# Altium footprint library Copy of LARS_409_DC-DC.PCBLIB: 17 footprints (part 1 of 2)
Each footprint in its own frame and in the unit in brackets; x right, y up, seen from the top. Pads: shape width x height; smd on the part's side, far side on the other; paste and mask are expansions set on the pad; w line width, h text height; cw(c..) or ccw(c..) is an arc to the next point about the centre after c.
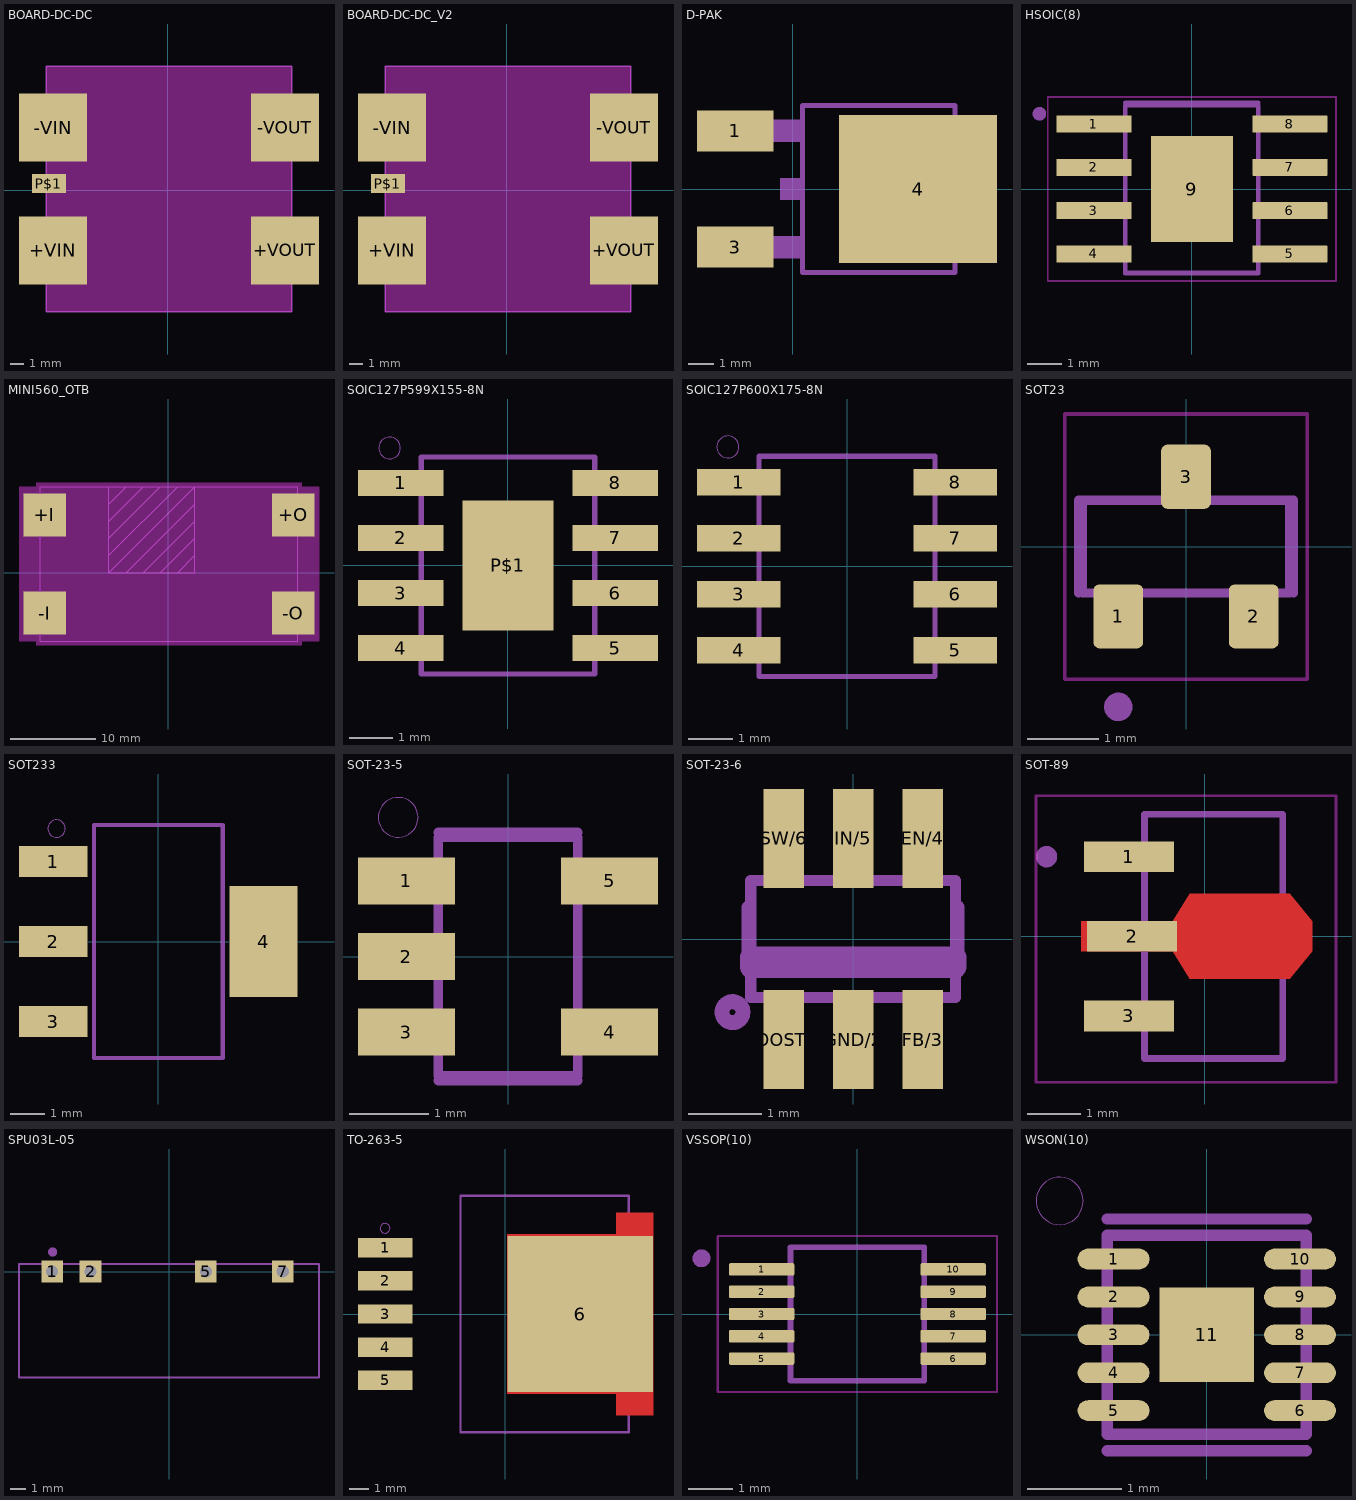
[diagram p0: the footprints below, top view; thin cyan lines are the x and y axes]

## BOARD-DC-DC [mm]
pads (5):
  rect 5x5 smd: +VIN(-8.39,-4.39) +VOUT(8.61,-4.39) -VIN(-8.39,4.61) -VOUT(8.61,4.61)
  rect 2.5x1.4 smd: P$1(-8.7,0.5)
Top keep-out:
  region: -8.89,-8.89 -8.89,9.11 9.11,9.11 9.11,-8.89
tPlace:
  lines w0.127: -8.89,-8.89 -8.89,9.11 9.11,9.11 9.11,-8.89 -8.89,-8.89

## BOARD-DC-DC_V2 [mm]
pads (5):
  rect 5x5 smd: +VIN(-8.39,-4.39) +VOUT(8.61,-4.39) -VIN(-8.39,4.61) -VOUT(8.61,4.61)
  rect 2.5x1.4 smd: P$1(-8.7,0.5)
Top keep-out:
  region: -8.89,-8.89 -8.89,9.11 9.11,9.11 9.11,-8.89
tPlace:
  lines w0.127: -8.89,-8.89 9.11,-8.89 9.11,9.11 -8.89,9.11 -8.89,-8.89

## D-PAK [mm]
pads (3):
  rect 3x1.6 smd: 1(-2.26,2.28) 3(-2.26,-2.28)
  rect 6.2x5.8 smd: 4(4.92,0)
tDocu:
  region: -2.616,2.718 0.279,2.718 0.279,1.854 -2.616,1.854
  region: -2.616,-1.854 0.279,-1.854 0.279,-2.718 -2.616,-2.718
  region: 6.477,2.565 7.188,2.565 7.645,2.108 7.645,-2.108 7.188,-2.565 6.477,-2.565
  lines w0.203: 6.375,-3.277 6.375,3.277 ; 6.477,-2.565 7.188,-2.565 7.645,-2.108 7.645,2.108 7.188,2.565 6.477,2.565 6.477,-2.565
tPlace:
  region: -0.483,0.432 0.279,0.432 0.279,-0.432 -0.483,-0.432
  lines w0.203: 6.375,-3.277 0.381,-3.277 0.381,3.277 6.375,3.277
3D body "User Library-DPAK-1.STEP": height 2.39, standoff -0.03, extent -2.509,-3.27 7.429,3.27

## HSOIC(8) [mm]
pads (9):
  rect 2.2x0.5 smd: 1(-2.875,1.905) 2(-2.875,0.635) 3(-2.875,-0.635) 4(-2.875,-1.905)
  rrect10% 2.2x0.5 smd: 5(2.875,-1.905) 6(2.875,-0.635) 7(2.875,0.635) 8(2.875,1.905)
  rect 2.4x3.1 smd: 9(0,0)
Top keep-out:
  lines w0.05: -4.225,-2.7 -4.225,2.7 4.225,2.7 4.225,-2.7 -4.225,-2.7
tDocu:
  circle w0.2: c-4.47,2.205 r0.1
  lines w0.127: -1.95,-2.45 -1.95,2.45 1.95,2.45 1.95,-2.45 -1.95,-2.45
tPlace:
  circle w0.2: c-4.47,2.205 r0.1
  lines w0.127: -1.95,-2.475 1.95,-2.475 ; -1.95,2.525 1.95,2.525
3D body "_0BG8_ E_;;0 acs711klctr-25ab-t .STEP": height 1.88, standoff -0.01, extent -3,-2.45 3,2.45

## MINI560_OTB [mm]
pads (4):
  rect 5x5 smd: +I(-14.44,6.76) +O(14.56,6.76) -I(-14.44,-4.7) -O(14.56,-4.7)
Top keep-out:
  region: -15.44,10.53 15.56,10.53 15.56,10.03 17.56,10.03 17.56,-7.97 15.56,-7.97 15.56,-8.47 -15.44,-8.47 -15.44,-7.97 -17.44,-7.97 -17.44,10.03 -15.44,10.03
tPlace:
  lines w0.127: -6.94,0.03 -4.94,0.03 ; -6.94,0.03 -6.94,2.03 ; -6.94,0.03 3.06,10.03 ; -6.94,2.03 -6.94,4.03 ; -6.94,2.03 1.06,10.03 ; -6.94,4.03 -6.94,6.03 ; -6.94,4.03 -0.94,10.03 ; -6.94,6.03 -6.94,8.03 ; -6.94,6.03 -2.94,10.03 ; -6.94,8.03 -6.94,10.03 ; -6.94,8.03 -4.94,10.03 ; -6.94,10.03 -14.94,10.03 -14.94,-7.97 15.06,-7.97 15.06,10.03 3.06,10.03 ; -6.94,10.03 -4.94,10.03 ; -4.94,0.03 -2.94,0.03 ; -4.94,0.03 3.06,8.03 ; -4.94,10.03 -2.94,10.03 ; -2.94,0.03 -0.94,0.03 ; -2.94,0.03 3.06,6.03 ; -2.94,10.03 -0.94,10.03 ; -0.94,0.03 1.06,0.03 ; -0.94,0.03 3.06,4.03 ; -0.94,10.03 1.06,10.03 ; 1.06,0.03 3.06,0.03 3.06,2.03 ; 1.06,0.03 3.06,2.03 ; 1.06,10.03 3.06,10.03 ; 3.06,2.03 3.06,4.03 ; 3.06,4.03 3.06,6.03 ; 3.06,6.03 3.06,8.03 ; 3.06,8.03 3.06,10.03

## SOIC127P599X155-8N [mm]
pads (9):
  rect 1.972x0.602 smd: 1(-2.472,1.905) 2(-2.472,0.635) 3(-2.472,-0.635) 4(-2.472,-1.905) 5(2.472,-1.905) 6(2.472,-0.635) 7(2.472,0.635) 8(2.472,1.905)
  rect 2.1x3 smd: P$1(0,0)
tDocu:
  lines w0.12: -2,-2.5 -2,2.5 2,2.5 2,-2.5 -2,-2.5
tPlace:
  circle w0: c-2.729,2.71 r0.25
  lines w0.12: -2,-2.46 -2,-2.5 2,-2.5 2,-2.46 ; -2,2.46 -2,2.5 2,2.5 2,2.46
3D body "User Library-HSOP8-1.STEP": height 1.74, standoff -0.01, extent -3.124,-2.511 3.076,2.489

## SOIC127P600X175-8N [mm]
pads (8):
  rect 1.901x0.602 smd: 1(-2.455,1.905) 2(-2.455,0.635) 3(-2.455,-0.635) 4(-2.455,-1.905) 5(2.455,-1.905) 6(2.455,-0.635) 7(2.455,0.635) 8(2.455,1.905)
tDocu:
  lines w0.12: -2,-2.5 -2,2.5 2,2.5 2,-2.5 -2,-2.5
tPlace:
  circle w0: c-2.703,2.71 r0.25
  lines w0.12: -2,-2.46 -2,-2.5 2,-2.5 2,-2.46 ; -2,2.46 -2,2.5 2,2.5 2,2.46
3D body "User Library-SOIC8_JEDEC_MS-012AA.STEP": height 1.75, standoff -0.01, extent -3.1,-2.5 3.1,2.5

## SOT23 [mm]
pads (3):
  rrect25% 0.7x0.9 smd: 1(-0.95,-0.98) 2(0.95,-0.98) 3(0,0.98)
Top keep-out:
  lines w0.05: -1.7,-1.86 1.7,-1.86 1.7,1.86 -1.7,1.86 -1.7,-1.86
tDocu:
  circle w0.2: c-0.95,-2.25 r0.1
  lines w0.127: -1.45,-0.65 1.45,-0.65 1.45,0.65 -1.45,0.65 -1.45,-0.65
tPlace:
  circle w0.2: c-0.95,-2.25 r0.1
  lines w0.127: -1.509,-0.65 -1.509,0.65 -0.61,0.65 ; 0.61,0.65 1.509,0.65 1.509,-0.65
3D body "CircuitWorks-SOT-23.step": height 1.08, standoff -0.02, extent -1.5,-1.25 1.5,1.25

## SOT233 [mil]
pads (4):
  rect 77.37x35 smd: 1(-119,90.55) 2(-119,0) 3(-119,-90.55)
  rect 77.37x125.56 smd: 4(119,0)
tDocu:
  lines w4.72: -72.83,-131.89 72.83,-131.89 72.83,131.89 -72.83,131.89 -72.83,-131.89
tPlace:
  circle w0: c-115.26,127.9 r9.84
  lines w4.72: -72.83,-118.06 -72.83,-131.89 72.83,-131.89 72.83,-72.78 ; -72.83,118.06 -72.83,131.89 72.83,131.89 72.83,72.78
3D body "SOT223.STEP": height 62.99, standoff -3.92, extent -138.28,-130 138.28,125.91

## SOT-23-5 [mm]
pads (5):
  rect 1.217x0.589 smd: 1(-1.277,0.95) 2(-1.277,0) 3(-1.277,-0.95) 4(1.277,-0.95) 5(1.277,0.95)
tDocu:
  lines w0.12: -0.875,-1.5 -0.875,1.5 0.875,1.5 0.875,-1.5 -0.875,-1.5
tPlace:
  circle w0: c-1.38,1.749 r0.25
  lines w0.12: -0.875,-1.559 0.875,-1.559 ; -0.875,1.559 0.875,1.559
3D body "32-5.step": height 1.18, standoff 0.01, extent -1.42,-1.459 1.405,1.441

## SOT-23-6 [mm]
pads (6):
  rect 0.55x1.35 smd: BOOST/1(-0.95,-1.375) EN/4(0.95,1.375) FB/3(0.95,-1.375) GND/2(0,-1.375) IN/5(0,1.375) SW/6(-0.95,1.375)
tDocu:
  region: -0.25,0.85 -0.25,1.5 0.25,1.5 0.25,0.85
  region: -1.2,0.85 -1.2,1.5 -0.7,1.5 -0.7,0.85
  region: 0.7,0.85 0.7,1.5 1.2,1.5 1.2,0.85
  region: 0.7,-1.5 0.7,-0.85 1.2,-0.85 1.2,-1.5
  region: -0.25,-1.5 -0.25,-0.85 0.25,-0.85 0.25,-1.5
  region: -1.2,-1.5 -1.2,-0.85 -0.7,-0.85 -0.7,-1.5
  lines w0.152: -1.4,-0.8 -1.4,0.8 1.4,0.8 1.4,-0.8 -1.4,-0.8
tPlace:
  circle w0.203: c-1.65,-1 r0.144
  lines w0.203: -1.422,-0.43 -1.422,0.43 ; 1.422,-0.43 1.422,0.43
  lines w0.305: -1.397,-0.381 1.397,-0.381 1.397,-0.254 -1.397,-0.254 -1.397,-0.381
3D body "23-6.step": height 1.09, standoff 0, extent -1.385,-1.253 1.409,1.173

## SOT-89 [mm]
pads (3):
  rect 1.7x0.58 smd: 1(-1.425,1.5) 3(-1.425,-1.5)
  rect 1.7x0.58 smd mask+0: 2(-1.365,0)
Top:
  region: -2.325,0.28 -2.325,-0.28 -0.6,-0.28 -0.28,-0.8 1.605,-0.8 2.025,-0.28 2.025,0.28 1.605,0.8 -0.28,0.8 -0.6,0.28
Top keep-out:
  lines w0.05: -3.175,-2.75 2.475,-2.75 2.475,2.65 -3.175,2.65 -3.175,-2.75
Top Paste:
  region: -0.098,-0.38 -0.098,0.38 1.623,0.38 1.623,-0.38
Top Solder:
  region: -2.425,0.38 -2.425,-0.38 -0.6,-0.38 -0.28,-0.9 1.605,-0.9 2.125,-0.28 2.125,0.28 1.605,0.9 -0.28,0.9 -0.6,0.38
tDocu:
  circle w0.2: c-2.975,1.5 r0.1
  lines w0.127: -1.13,-2.3 1.47,-2.3 1.47,2.3 -1.13,2.3 -1.13,-2.3
tPlace:
  circle w0.2: c-2.975,1.5 r0.1
  lines w0.127: -1.13,-2.3 1.47,-2.3 1.47,-0.92 ; -1.13,2.3 1.47,2.3 1.47,0.92
3D body "SOT-89.step": height 1.35, standoff 0, extent -2.246,-2.3 2.004,2.3

## SPU03L-05 [mil]
pads (4):
  rect 56x56 / inner round 51.74 / far side rect 56x56 hole 31.5: 1(-303.94,0) 2(-203.94,0) 5(95.67,0) 7(295.67,0)
tDocu:
  circle w16: c-302.36,50.79 r3.94
tPlace:
  lines w6: -389.76,-275.59 -389.76,19.69 389.76,19.69 389.76,-275.59 -389.76,-275.59

## TO-263-5 [mil]
pads (6):
  rect 109.91x39.33 smd: 1(-243.5,133.86) 2(-243.5,66.93) 3(-243.5,0) 4(-243.5,-66.93) 5(-243.5,-133.86)
  rect 294.56x314.96 smd paste+0 mask+0: 6(151.18,0)
Top:
  region: 299.21,-204.72 299.21,204.72 224.41,204.72 224.41,161.42 3.94,161.42 3.94,-161.42 15.75,-161.42 224.41,-161.42 224.41,-204.72
Top Paste:
  region: 3.94,-157.48 3.94,157.48 224.41,157.48 224.41,204.72 299.21,204.72 299.21,-204.72 224.41,-204.72 224.41,-157.48
Top Solder:
  region: 3.94,-157.48 3.94,157.48 224.41,157.48 224.41,204.72 299.21,204.72 299.21,-204.72 224.41,-204.72 224.41,-157.48 212.6,-157.48
tDocu:
  lines w4.72: -90.94,-239.37 -90.94,239.37 249.21,239.37 249.21,-239.37 -90.94,-239.37
tPlace:
  circle w0: c-243.5,173.37 r9.84
  lines w4.72: 249.21,-213.38 249.21,-239.37 -90.94,-239.37 -90.94,239.37 249.21,239.37 249.21,213.38
3D body "User Library-5L TO-263 THIN.STEP": height 78.74, standoff -0.39, extent -257.68,-200 293.9,200

## VSSOP(10) [mm]
pads (10):
  rrect25% 1.47x0.28 smd: 1(-2.15,1) 2(-2.15,0.5) 3(-2.15,0) 4(-2.15,-0.5) 5(-2.15,-1) 6(2.15,-1) 7(2.15,-0.5) 8(2.15,0) 9(2.15,0.5) 10(2.15,1)
Top keep-out:
  lines w0.05: -3.135,-1.75 -3.135,1.75 3.135,1.75 3.135,-1.75 -3.135,-1.75
tDocu:
  circle w0.2: c-3.5,1.25 r0.1
  lines w0.127: -1.5,-1.5 -1.5,1.5 1.5,1.5 1.5,-1.5 -1.5,-1.5
tPlace:
  circle w0.2: c-3.5,1.25 r0.1
  lines w0.127: -1.5,-1.5 1.5,-1.5 ; -1.5,1.5 1.5,1.5
3D body "User Library-DGS0010A.STEP": height 1.1, standoff 0, extent -2.463,-1.5 2.463,1.5

## WSON(10) [mil]
pads (11):
  rrect100% 29.92x8.66 smd: 1(-38.76,31.5) 2(-38.76,15.75) 3(-38.76,0) 4(-38.76,-15.75) 5(-38.76,-31.5) 6(38.76,-31.5) 7(38.76,-15.75) 8(38.76,0) 9(38.76,15.75) 10(38.76,31.5)
  rect 39.37x39.37 smd: 11(0,0)
tDocu:
  lines w4.72: -41.34,-41.34 -41.34,41.34 41.34,41.34 41.34,-41.34 -41.34,-41.34
tPlace:
  circle w0: c-61.18,55.67 r9.84
  lines w4.72: -41.34,-48.19 41.34,-48.19 ; -41.34,48.19 41.34,48.19